# EAGLE library part TE-282834-6-DOUBLE (library OpenSourceSyringePump)
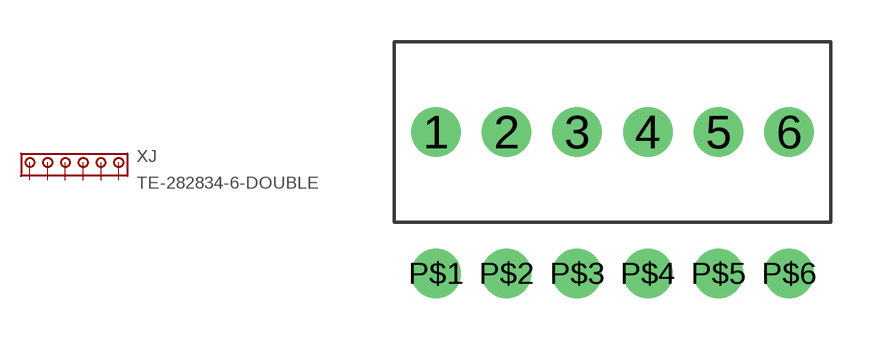
[diagram p5: symbol with the pads of TE-282834-6-DOUBLE; footprint TE-282834-6-DOUBLE]

Designator prefix XJ

## TE-282834-6-DOUBLE  [TE-282834-6-DOUBLE]
1  1  pas
2  2  pas
3  3  pas
4  4  pas
5  5  pas
6  6  pas
P$1  1  pas
P$2  2  pas
P$3  3  pas
P$4  4  pas
P$5  5  pas
P$6  6  pas

## Footprint TE-282834-6-DOUBLE (pad centres in mm)
drill 0.94 pad 1.778: 1 -6.35,0; 2 -3.81,0; 3 -1.27,0; 4 1.27,0; 5 3.81,0; 6 6.35,0; P$1 -6.35,-5.08; P$2 -3.81,-5.08; P$3 -1.27,-5.08; P$4 1.27,-5.08; P$5 3.81,-5.08; P$6 6.35,-5.08